# Altium schematic symbol library Connectors.SchLib: 26 symbols
Pins are listed as number, name and electrical type; pins without a type are passive.

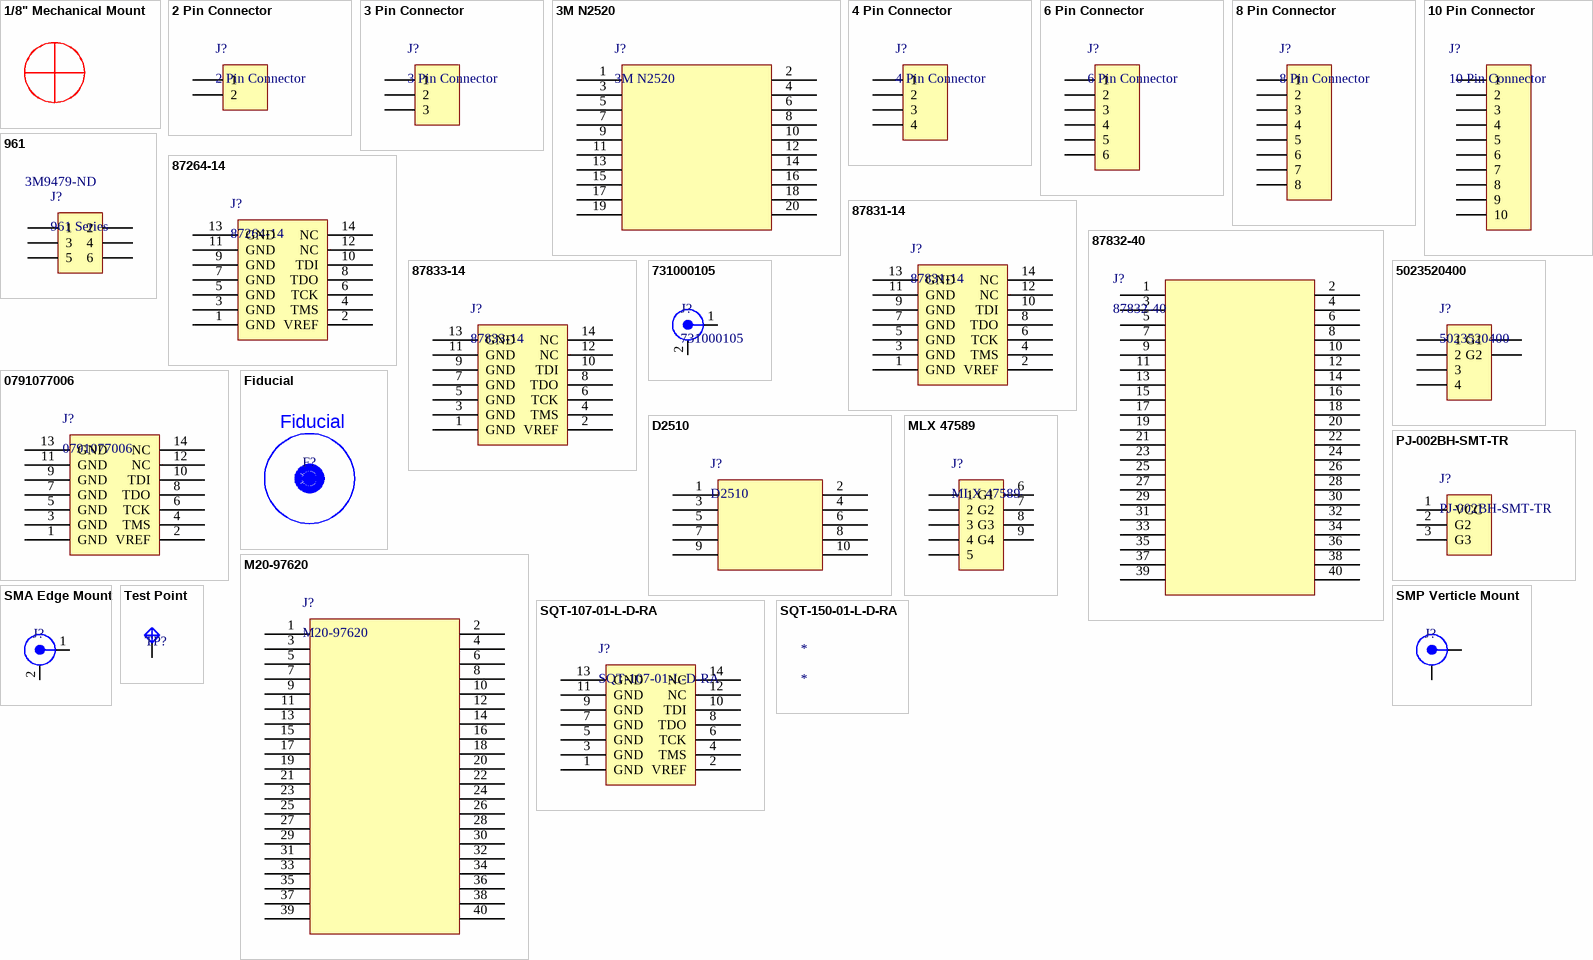
[diagram p0: symbols 1/8" Mechanical Mount to Test Point]

## 1/8" Mechanical Mount
designator 1/8" Mechanical Mount, comment 1/8" Hole for Mount  (value not drawn)
For Mechanical Assembly only - 1/8" Hole and Spacer for Mechanical Mount; Manufacturer: Harwin Inc; Manufacturer Part Number: R30-6700894; Threaded/Unthreaded: Unthreaded; Gender: Female, Female; Thread/Screw/Hole Size: M3, 0.126" (3.20mm) Inner Dia; Between Board Height: 0.315" (8.00mm); Supplier 1: Digi-Key; Supplier Part Number 1: 952-1530-ND; RoHS: RoHS Compliant; Category: Hardware, Fasteners, Accessories; Stock 1: 7920; Pricing 1: 1=0.23, 5=0.202, 10=0.168, 25=0.1576, 50=0.1508, 100=0.134, 250=0.12732, 500=0.1206, 1000=0.1139 (USD); Type: Round Spacer; Diameter - Outside: 0.197" (5.00mm); Length - Overall: 0.315" (8.00mm); Features: -; Material: Nylon; Plating: -; Color: White; Weight: -; ComponentLink1URL: http://harwin.com/includes/pdfs/R30-670.pdf; ComponentLink1Description: http://harwin.com/includes/pdfs/R30-670.pdf
footprint 1/8" Mechanical Mount (1/8" Hole for Mechanical Mount)

## 2 Pin Connector
designator J?
footprint 2 Pin Connector (Right Angle) (2 Pin Connector with 0.1'' Pitch)
footprint 2 Pin Connector (Straight) (2 Pin,  0.1" pitch, Through Hole (Straight))
pins: 1, 2

## 3 Pin Connector
designator J?
footprint 3 Pin Connector (Right Angle) (3 Pin Connector with 0.1'' Pitch)
footprint 3 Pin Connector (Straight) (3 Pin,  0.1" pitch, Through Hole)
pins: 1, 2, 3

## 3M N2520
designator J?
CONN HEADER 20 POS STRGHT GOLD; Manufacturer Part Number: N2520-6002-RB; Connector Type: Header, Shrouded; Number of Positions: 20; Number of Positions Loaded: All; Pitch: 0.100" (2.54mm); Supplier 1: Digi-Key; Supplier Part Number 1: MHC20K-ND; Manufacturer: 3M; RoHS: RoHS Compliant; Category: Connectors, Interconnects; Stock 1: 3495; Pricing 1: 1=2.16, 10=1.96, 50=1.76, 100=1.68, 250=1.52, 500=1.4, 1000=1.2, 2500=1.12, 5000=1.064 (USD); Packaging: Bulk; Contact Type: Male Pin; Number of Rows: 2; Row Spacing: 0.100" (2.54mm); Contact Mating Length: 0.243" (6.17mm); Mounting Type: Through Hole; Termination: Solder; Fastening Type: -; Features: -; Contact Finish: Gold; Contact Finish Thickness: 30µin (0.76µm); Color: Black; ComponentLink1URL: http://multimedia.3m.com/mws/mediawebserver?66666UuZjcFSLXTtMXM6MxfcEVuQEcuZgVs6EVs6E666666--; ComponentLink1Description: http://multimedia.3m.com/mws/mediawebserver?66666UuZjcFSLXTtMXM6MxfcEVuQEcuZgVs6EVs6E666666--
footprint 2x10 100 mil Connector (20 Pin,  0.1" pitch, Through Hole (Straight))
pins: 1, 2, 3, 4, 5, 6, 7, 8, 9, 10, 11, 12, 13, 14, 15, 16, 17, 18, 19, 20

## 4 Pin Connector
designator J?
footprint 4 Pin Connector (Right Angle) (4 Pin Connector with 0.1'' Pitch)
footprint 4 Pin Connector (Straight) (4 Pin,  0.1" pitch, Through Hole)
pins: 1, 2, 3, 4

## 6 Pin Connector
designator J?
footprint 6 Pin Connector (Right Angle) (6 Pin Connector with 0.1'' Pitch)
footprint 6 Pin Connector (Straight) (6 Pin,  0.1" pitch, Through Hole (Straight))
pins: 1, 2, 3, 4, 5, 6

## 8 Pin Connector
designator J?
Manufacturer: *; Man. Part #: *; Supplier: *; Sup. Part #: *
footprint 8 Pin Connector (Right Angle) (8 Pin, 0.1" pitch, 90' angle, Through-hole)
footprint 8 Pin Connector (Straight) (8 Pin,  0.1" pitch, Through Hole (Straight))
pins: 1, 2, 3, 4, 5, 6, 7, 8

## 10 Pin Connector
designator J?
Manufacturer: *; Man. Part #: *; Supplier: *; Sup. Part #: *
footprint 10 Pin Connector (Right Angle) (10 Pin,  0.1" pitch, 90' Angle, Through Hole)
footprint 10 Pin Connector (Straight) (10 Pin,  0.1" pitch, Through Hole)
pins: 1, 2, 3, 4, 5, 6, 7, 8, 9, 10

## 961
designator J?, comment 961 Series  Supplier Part Number 1: 3M9479-ND
3x2 RA Pin Connector; Supplier 1: Digi-Key
footprint 3x2 Pin Connector (Right Angle) (6 Pin Connector with 0.1'' Pitch)
pins: 1, 2, 3, 4, 5, 6

## 87264-14
designator J?
CONN RECEPT 2MM 14POS SIDE ENTRY; Manufacturer: Molex Connector Corporation; Manufacturer Part Number: 87264-1452; Connector Type: Receptacle; Number of Positions: 14; Number of Positions Loaded: All; Pitch: 0.079" (2.00mm); Supplier 1: Digi-Key; Supplier Part Number 1: WM19039-ND; RoHS: RoHS Compliant; Category: Connectors, Interconnects; Stock 1: 264; Pricing 1: 1=2.3, 10=2.083, 50=1.87, 100=1.785, 250=1.615, 500=1.4875, 1000=1.275, 2500=1.19, 5000=1.1305 (USD); Packaging: Tube; Contact Type: Female Socket; Number of Rows: 2; Row Spacing: 0.079" (2.00mm); Mounting Type: Through Hole, Right Angle; Termination: Solder; Fastening Type: -; Features: -; Contact Finish: Gold; Contact Finish Thickness: 15µin (0.38µm); Color: Black; ComponentLink1URL: http://www.molex.com/pdm_docs/sd/872640852_sd.pdf; ComponentLink1Description: http://www.molex.com/pdm_docs/sd/872640852_sd.pdf
footprint MLX 87264-14 (Right Angle JTAG Female connector)
pins: 1 GND, 2 VREF, 3 GND, 4 TMS, 5 GND, 6 TCK, 7 GND, 8 TDO, 9 GND, 10 TDI, 11 GND, 12 NC, 13 GND, 14 NC

## 87831-14
designator J?
HEADER SHRD VT SLOT/STDF 14CKT; Manufacturer: Molex Inc; Manufacturer Part Number: 0878311421; Connector Type: Header, Shrouded; Number of Positions: 14; Number of Positions Loaded: All; Pitch: 0.079" (2.00mm); Supplier 1: Digi-Key; Supplier Part Number 1: WM4224-ND; RoHS: RoHS Compliant; Category: Connectors, Interconnects; Stock 1: 22595; Pricing 1: 1=1.57, 10=1.424, 25=1.3372, 50=1.279, 100=1.2209, 250=1.10468, 500=1.01746, 1000=0.8721, 2500=0.81396 (USD); Packaging: Tube; Contact Type: Male Pin; Number of Rows: 2; Row Spacing: 0.079" (2.00mm); Contact Mating Length: 0.141" (3.60mm); Mounting Type: Through Hole; Termination: Solder; Fastening Type: -; Features: -; Contact Finish: Gold; Contact Finish Thickness: 30µin (0.76µm); Color: Black; ComponentLink1URL: http://www.molex.com/pdm_docs/sd/878311421_sd.pdf; ComponentLink1Description: http://www.molex.com/pdm_docs/sd/878311421_sd.pdf
footprint MLX 87831-14 (Vertical Male JTAG connector)
pins: 1 GND, 2 VREF, 3 GND, 4 TMS, 5 GND, 6 TCK, 7 GND, 8 TDO, 9 GND, 10 TDI, 11 GND, 12 NC, 13 GND, 14 NC

## 87832-40
designator J?
40 pin shrouded header; vertical; Supplier 1: Digi-Key; Supplier Part Number 1: WM18648-ND
footprint MLX 87832-40 (40 pin vertical shrouded header)
pins: 1, 2, 3, 4, 5, 6, 7, 8, 9, 10, 11, 12, 13, 14, 15, 16, 17, 18, 19, 20, 21, 22, 23, 24, 25, 26, 27, 28, 29, 30, 31, 32, 33, 34, 35, 36, 37, 38, 39, 40

## 87833-14
designator J?
JTAG RA 14pin Connector; Manufacturer: *; Man. Part #: *; Supplier: *; Sup. Part #: *; Supplier 1: Digi-Key; Supplier Part Number 1: WM8616-ND
footprint MLX 87833-14 (Right Angle JTAG connector)
pins: 1 GND, 2 VREF, 3 GND, 4 TMS, 5 GND, 6 TCK, 7 GND, 8 TDO, 9 GND, 10 TDI, 11 GND, 12 NC, 13 GND, 14 NC

## 731000105
designator J?
CONN BNC JACK R/A 50 OHM PCB; Manufacturer: Molex Inc; Manufacturer Part Number: 0731000105; Connector Type: Jack, Female Socket; Contact Termination: Solder; Impedance: 50 Ohm; Frequency - Max: 10GHz; Body Material: Zinc Alloy; Body Finish: Nickel; Center Contact Material: Phosphor Bronze; Center Contact Plating: Gold; Tin; Dielectric Material: Polypropylene (PP); Voltage Rating: 1000V; Supplier 1: Digi-Key; Supplier Part Number 1: WM5524-ND; RoHS: RoHS Compliant; Category: Connectors, Interconnects; Stock 1: 3875; Pricing 1: 1=1.48, 10=1.342, 50=1.2048, 100=1.15, 250=1.04044, 500=0.9583, 1000=0.8214, 2500=0.76664, 5000=0.72831 (USD); Packaging: Bulk; Connector Style: BNC; Shield Termination: Solder; Mounting Type: Through Hole, Right Angle; Cable Group: -; Fastening Type: Bayonet Lock; Features: -; Housing Color: Silver; Ingress Protection: -; Operating Temperature: -65°C ~ 95°C; ComponentLink1URL: http://www.molex.com/pdm_docs/sd/731000105_sd.pdf; ComponentLink1Description: http://www.molex.com/pdm_docs/sd/731000105_sd.pdf
footprint BNC Edge Mount (BNC Female Board Edge Connector)
pins: 1, 2

## 0791077006
designator J?
CONN RECEPT 2MM 14POS VERT; Manufacturer: Molex Inc; Connector Type: Receptacle; Number of Positions: 14; Number of Positions Loaded: All; Pitch: 0.079" (2.00mm); Supplier 1: Digi-Key; Supplier Part Number 1: WM18678-ND; Manufacturer Part Number: 0791077006; RoHS: RoHS Compliant; Category: Connectors, Interconnects; Stock 1: 1817; Pricing 1: 1=2.4, 10=2.181, 50=1.9588, 100=1.8698, 250=1.69176, 500=1.5582, 1000=1.3356, 2500=1.24656, 5000=1.18423 (USD); Packaging: Tube; Contact Type: Female Socket; Number of Rows: 2; Row Spacing: 0.079" (2.00mm); Mounting Type: Through Hole; Termination: Solder; Fastening Type: -; Features: -; Contact Finish: Gold; Contact Finish Thickness: 15µin (0.38µm); Color: Black; ComponentLink1URL: http://www.molex.com/pdm_docs/sd/791077006_sd.pdf; ComponentLink1Description: http://www.molex.com/pdm_docs/sd/791077006_sd.pdf
footprint MLX 0791077006 (Vertical female JTAG connector)
pins: 1 GND, 2 VREF, 3 GND, 4 TMS, 5 GND, 6 TCK, 7 GND, 8 TDO, 9 GND, 10 TDI, 11 GND, 12 NC, 13 GND, 14 NC

## 5023520400
designator J?
Duraclik 4POS 2MM R/A SMD; Manufacturer: Molex Inc; Connector Type: Header, Shrouded; Number of Positions: 4; Number of Positions Loaded: All; Pitch: 0.079" (2.00mm); Supplier 1: Digi-Key; Supplier Part Number 1: WM7171CT-ND; Manufacturer Part Number: 5023520400; RoHS: RoHS Compliant; Category: Connectors, Interconnects; Stock 1: 14842; Pricing 1: 1=1.47, 10=1.294, 25=1.218, 50=1.167, 100=1.1163, 250=1.01488 (USD); Packaging: Cut Tape (CT); Contact Type: Male Pin; Number of Rows: 1; Row Spacing: -; Contact Mating Length: -; Mounting Type: Surface Mount, Right Angle; Termination: Solder; Fastening Type: Latch Lock; Features: Solder Retention; Contact Finish: Tin; Contact Finish Thickness: -; Color: Natural; ComponentLink1URL: http://www.molex.com/pdm_docs/sd/5023520200_sd.pdf; ComponentLink1Description: http://www.molex.com/pdm_docs/sd/5023520200_sd.pdf
footprint Duraclik 4-pin (4-pin RA SMD 2MM connector header)
pins: 1, 2, 3, 4, 5 G1 (power), 6 G2 (power)

## D2510
designator J?
CONN HEADER 10POS SMD VERT 10AU; Manufacturer: 3M; Manufacturer Part Number: D2510-6V0C-AR-WD; Connector Type: Header, Shrouded; Number of Positions: 10; Number of Positions Loaded: All; Pitch: 0.100" (2.54mm); Supplier 1: Digi-Key; Supplier Part Number 1: MSH10ECT-ND; RoHS: RoHS Compliant; Category: Connectors, Interconnects; Stock 1: 2224; Pricing 1: 1=2.17, 10=1.967, 25=1.8468, 50=1.7666, 100=1.6863 (USD); Packaging: Cut Tape (CT); Contact Type: Male Pin; Number of Rows: 2; Row Spacing: 0.100" (2.54mm); Contact Mating Length: 0.243" (6.17mm); Mounting Type: Surface Mount; Termination: Solder; Fastening Type: -; Features: -; Contact Finish: Gold; Contact Finish Thickness: 10µin (0.25µm); Color: Black; ComponentLink1URL: http://multimedia.3m.com/mws/mediawebserver?66666UuZjcFSLXTtm8T_oxMcEVuQEcuZgVs6EVs6E666666--; ComponentLink1Description: http://multimedia.3m.com/mws/mediawebserver?66666UuZjcFSLXTtm8T_oxMcEVuQEcuZgVs6EVs6E666666--
footprint 2x5 100 mil Connector (10 Pin,  0.1" pitch, Straight SMA)
pins: 1, 2, 3, 4, 5, 6, 7, 8, 9, 10

## Fiducial
designator F?  (value not drawn)
Fiducial Marking on PCB, no component to install; Manufacturer 1: None; Description 1: Fiducial Marking on PCB, no component to install; Supplier 1: None
footprint Fiducial

## M20-97620
designator J?
20+20 DIL VERT PIN HDR; Manufacturer: Harwin Inc; Manufacturer Part Number: M20-9762046; Connector Type: Header, Unshrouded, Breakaway; Number of Positions: 40; Number of Positions Loaded: All; Pitch: 0.100" (2.54mm); Supplier 1: Digi-Key; Supplier Part Number 1: 952-1896-ND; RoHS: RoHS Compliant; Category: Connectors, Interconnects; Stock 1: 2111; Pricing 1: 1=1.16, 10=1.023, 25=0.9624, 50=0.9224, 100=0.8822, 250=0.802, 500=0.7218, 1000=0.6416, 2500=0.58145 (USD); Packaging: Bulk; Contact Type: Male Pin; Number of Rows: 2; Row Spacing: 0.100" (2.54mm); Contact Mating Length: 0.228" (5.80mm); Mounting Type: Through Hole; Termination: Solder; Fastening Type: -; Features: -; Contact Finish: Tin; Contact Finish Thickness: -; Color: Black; ComponentLink1URL: http://harwin.com/includes/pdfs/M20-976.pdf; ComponentLink1Description: http://harwin.com/includes/pdfs/M20-976.pdf
footprint Male Verticle 40-pin 100 mil (2x20 100 mil)
pins: 1, 2, 3, 4, 5, 6, 7, 8, 9, 10, 11, 12, 13, 14, 15, 16, 17, 18, 19, 20, 21, 22, 23, 24, 25, 26, 27, 28, 29, 30, 31, 32, 33, 34, 35, 36, 37, 38, 39, 40

## MLX 47589
designator J?
Micro USB; Supplier 1: Digi-Key; Supplier Part Number 1: WM17143CT-ND
footprint Micro USB (SMT RA)
pins: 1, 2, 3, 4, 5, 6 G1, 7 G2, 8 G3, 9 G4

## PJ-002BH-SMT-TR
designator J?
CONN POWER JACK 2.5X5.5MM HI CUR; Manufacturer: CUI Inc; Gender: Male; Plug/Mating Plug Diameter: 2.5mm ID, 5.5mm OD; Number of Positions/Contacts: 2 Conductors, 3 Contacts; Internal Switch(s): Single Switch, Normally Closed; Shielding: Unshielded; Voltage - Rated: 24VDC; Current Rating: 5A; Supplier 1: Digi-Key; Supplier Part Number 1: CP-002BHPJCT-ND; Manufacturer Part Number: PJ-002BH-SMT-TR; RoHS: RoHS Compliant; Category: Connectors, Interconnects; Stock 1: 101744; Pricing 1: 1=1.89, 10=1.469, 100=1.121 (USD); Connector Type: Jack; Mounting Type: Surface Mount, Right Angle; Termination: Solder; Features: -; Color: Black; Contact Material: Copper Alloy; Contact Material - Plating: Nickel; Housing Color: Black; Housing Material: Thermoplastic; Operating Temperature: -25°C ~ 85°C; ComponentLink1URL: http://www.cui.com/product/resource/digikeypdf/pj-002bh-smt.pdf; ComponentLink1Description: http://www.cui.com/product/resource/digikeypdf/pj-002bh-smt.pdf
footprint Barrel Connector (SMT RA)
pins: 1 VCC (power), 2 G2 (power), 3 G3 (power)

## SMA Edge Mount
designator J?, comment SPE-12-8-134  (value not drawn)
SMA Edge Mount PCB Jack; Supplier 1: Digi-Key; Supplier Part Number 1: 931-1175-ND
footprint SMA Edge Mount (Straight Edge Mount PCB Jack)
pins: 1, 2

## SMP Verticle Mount
designator J?, comment SPE-12-8-134  (value not drawn)
SMP Verticle Mount PCB Jack; Supplier 1: Digi-Key; Supplier Part Number 1: WM5395CT-ND
footprint SMP Verticle Mount (Molex SMP Verticle Mount)
pins: 1, 2

## SQT-107-01-L-D-RA
designator J?
CONN RCPT 2MM 14POS DL GOLD R/A; Manufacturer: Samtec Inc; Connector Type: Receptacle; Number of Positions: 14; Number of Positions Loaded: All; Pitch: 0.079" (2.00mm); Supplier 1: Digi-Key; Supplier Part Number 1: SAM1246-07-ND; Manufacturer Part Number: SQT-107-01-L-D-RA; RoHS: RoHS Compliant; Category: Connectors, Interconnects; Stock 1: 0; Pricing 1: 1=6.37, 10=5.524, 100=4.6744, 500=3.7183, 1000=3.02775, 5000=2.76216, 10000=2.65593 (USD); Packaging: Tube; Contact Type: Female Socket; Number of Rows: 2; Row Spacing: 0.079" (2.00mm); Mounting Type: Through Hole, Right Angle; Termination: Solder; Fastening Type: -; Features: -; Contact Finish: Gold; Contact Finish Thickness: 10µin (0.25µm); Color: Black; ComponentLink1URL: http://www.samtec.com/documents/webfiles/cpdf/SQT-1XX-XX-XXX-X-XXX-XXX-MKT.pdf; ComponentLink1Description: http://www.samtec.com/documents/webfiles/cpdf/SQT-1XX-XX-XXX-X-XXX-XXX-MKT.pdf
footprint SQT-107-L-D-RA (RA female JTAG connector)
pins: 1 GND, 2 VREF, 3 GND, 4 TMS, 5 GND, 6 TCK, 7 GND, 8 TDO, 9 GND, 10 TDI, 11 GND, 12 NC, 13 GND, 14 NC

## SQT-150-01-L-D-RA
designator *
CONN RCPT 2MM 100POS DL GOLD R/A; Manufacturer: Samtec Inc; Manufacturer Part Number: SQT-150-01-L-D-RA; Connector Type: Receptacle; Number of Positions: 100; Number of Positions Loaded: All; Pitch: 0.079" (2.00mm); Supplier 1: Digi-Key; Supplier Part Number 1: SAM1246-50-ND; RoHS: RoHS Compliant; Category: Connectors, Interconnects; Stock 1: 233; Pricing 1: 1=21.66, 10=18.772, 100=15.884, 500=12.635, 1000=10.2885, 5000=9.386, 10000=9.025 (USD); Packaging: Tube; Contact Type: Female Socket; Number of Rows: 2; Row Spacing: 0.079" (2.00mm); Mounting Type: Through Hole, Right Angle; Termination: Solder; Fastening Type: -; Features: -; Contact Finish: Gold; Contact Finish Thickness: 10µin (0.25µm); Color: Black; ComponentLink1URL: http://www.samtec.com/documents/webfiles/cpdf/SQT-1XX-XX-XXX-X-XXX-XXX-MKT.pdf; ComponentLink1Description: http://www.samtec.com/documents/webfiles/cpdf/SQT-1XX-XX-XXX-X-XXX-XXX-MKT.pdf

## Test Point
designator TP?  (value not drawn)
TEST POINT PC MULTI PURPOSE BLK; Manufacturer 1: Keystone Electronics; Manufacturer Part Number 1: 5011; Supplier 1: Digi-Key; RoHS 1: RoHS Compliant; Description 1: TEST POINT PC MULTI PURPOSE BLK; Category: Test and Measurement; Stock 1: 347724; Pricing 1: 1=0.36, 10=0.315, 50=0.2296, 100=0.2206, 250=0.19812, 500=0.1891, 1000=0.15759, 2500=0.14408, 5000=0.13508 (USD); Packaging: Bulk; Type: PC Test Point, Multipurpose; Terminal: 0.015" x 0.032" (0.38mm x 0.81mm) Phosphor Bronze Wire, Silver Plated; Mounting Type: 0.063" (1.60mm) Hole Diameter; Material: Base, Nylon 46, UL 94V-0; Color: Black; ComponentLink1URL: http://www.keyelco.com/product-pdf.cfm?p=1320; ComponentLink1Description: http://www.keyelco.com/product-pdf.cfm?p=1320; Supplier Part Number 1: 5011K-ND
footprint Test Point (Multipurpose Test Point)
pins: 1